# EAGLE library part LTC6804-1 (library UBCSolar)
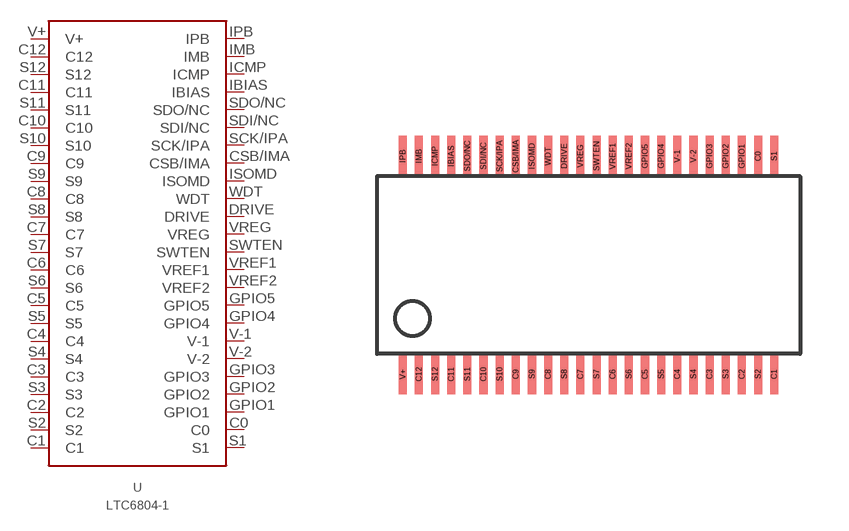
[diagram p10: symbol with the pads of LTC6804-1; footprint LTC6804-1]

Designator prefix -

## LTC6804-1  [LTC6804-1]
C0  C0
C1  C1
C2  C2
C3  C3
C4  C4
C5  C5
C6  C6
C7  C7
C8  C8
C9  C9
C10  C10
C11  C11
C12  C12
CSB/IMA  CSB/IMA
DRIVE  DRIVE
GPIO1  GPIO1
GPIO2  GPIO2
GPIO3  GPIO3
GPIO4  GPIO4
GPIO5  GPIO5
IBIAS  IBIAS
ICMP  ICMP
IMB  IMB
IPB  IPB
ISOMD  ISOMD
S1  S1
S2  S2
S3  S3
S4  S4
S5  S5
S6  S6
S7  S7
S8  S8
S9  S9
S10  S10
S11  S11
S12  S12
SCK/IPA  SCK/IPA
SDI/NC  SDI/NC
SDO/NC  SDO/NC
SWTEN  SWTEN
V+  V+
V-1  V-1
V-2  V-2
VREF1  VREF1
VREF2  VREF2
VREG  VREG
WDT  WDT

## Footprint LTC6804-1 (pad centres in mm)
LTC6804-1 Battery Monitor https://www.analog.com/media/en/technical-documentation/data-sheets/680412fc.pdf
smd 0.25 x 1.25: C0 5.25,3.375; C1 5.75,-3.375; C2 4.75,-3.375; C3 3.75,-3.375; C4 2.75,-3.375; C5 1.75,-3.375; C6 0.75,-3.375; C7 -0.25,-3.375; C8 -1.25,-3.375; C9 -2.25,-3.375; C10 -3.25,-3.375; C11 -4.25,-3.375; C12 -5.25,-3.375; CSB/IMA -2.25,3.375; DRIVE -0.75,3.375; GPIO1 4.75,3.375; GPIO2 4.25,3.375; GPIO3 3.75,3.375; GPIO4 2.25,3.375; GPIO5 1.75,3.375; IBIAS -4.25,3.375; ICMP -4.75,3.375; IMB -5.25,3.375; IPB -5.75,3.375; ISOMD -1.75,3.375; S1 5.75,3.375; S2 5.25,-3.375; S3 4.25,-3.375; S4 3.25,-3.375; S5 2.25,-3.375; S6 1.25,-3.375; S7 0.25,-3.375; S8 -0.75,-3.375; S9 -1.75,-3.375; S10 -2.75,-3.375; S11 -3.75,-3.375; S12 -4.75,-3.375; SCK/IPA -2.75,3.375; SDI/NC -3.25,3.375; SDO/NC -3.75,3.375; SWTEN 0.25,3.375; V+ -5.75,-3.375; V-1 2.75,3.375; V-2 3.25,3.375; VREF1 0.75,3.375; VREF2 1.25,3.375; VREG -0.25,3.375; WDT -1.25,3.375